# Altium schematic symbol library FH63S-30S-0.5SH.SchLib: 1 symbol
Pins are listed as number, name and electrical type; pins without a type are passive.

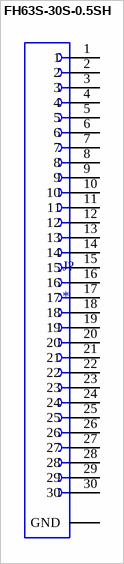
[diagram p0: symbol FH63S-30S-0.5SH]

## FH63S-30S-0.5SH
designator J?
MP: FH63S-30S-0.5SH; Value: *; Price: None; Package: None; Availability: Unavailable
footprint HRS_FH63S-30S-0.5SH
pins: 1, 2, 3, 4, 5, 6, 7, 8, 9, 10, 11, 12, 13, 14, 15, 16, 17, 18, 19, 20, 21, 22, 23, 24, 25, 26, 27, 28, 29, 30, G1 GND (power), G2 GND (power), G3 GND (power), G4 GND (power), G5 GND (power), G6 GND (power), G7 GND (power), G8 GND (power)